# Altium integrated library sketch identifier.IntLib: 3 symbols
Pins are listed as number, name and electrical type; pins without a type are passive.

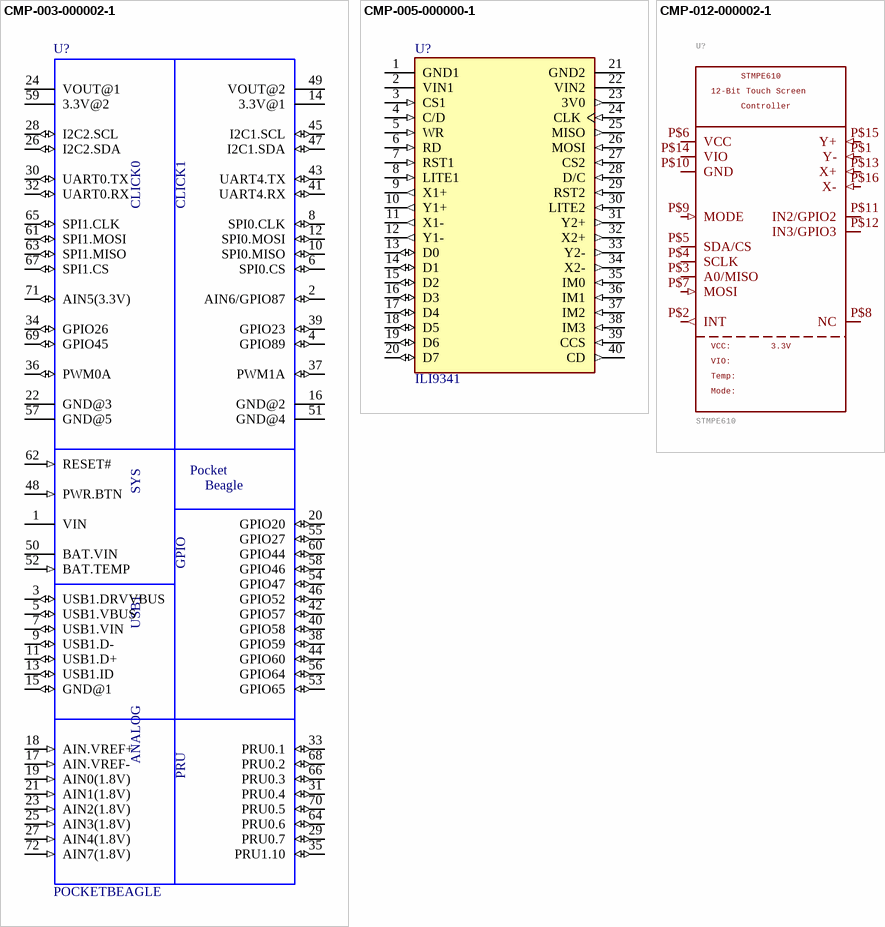
[diagram p0: symbols CMP-003-000002-1 to CMP-012-000002-1]

## CMP-003-000002-1
designator U?, comment POCKETBEAGLE
OSD3358 PocketBeagle - ARMÂ® CortexÂ®-A8 MPU Embedded Evaluation Board; MF: Beagleboard; Source: POCKETBEAGLE.SchLib; Component Type: Standard; Price: None; Check_prices: https://www.snapeda.com/parts/POCKETBEAGLE/BeagleBoard/view-part/4222356/?ref=eda; MP: POCKETBEAGLE; Pin Count: 72; Design Item ID: POCKETBEAGLE; SnapEDA_Link: https://www.snapeda.com/parts/POCKETBEAGLE/BeagleBoard/view-part/4222356/?ref=snap; Value: *; Availability: No availability data; Package: None; Component Type: Mechanical
footprint POCKETBEAGLE
pins: 1 VIN (power), 2 AIN6/GPIO87 (io), 3 USB1.DRVVBUS (io), 4 GPIO89 (io), 5 USB1.VBUS (io), 6 SPI0.CS (io), 7 USB1.VIN (io), 8 SPI0.CLK (io), 9 USB1.D- (io), 10 SPI0.MISO (io), 11 USB1.D+ (io), 12 SPI0.MOSI (io), 13 USB1.ID (io), 14 3.3V@1 (power), 15 GND@1 (io), 16 GND@2 (power), 17 AIN.VREF- (in), 18 AIN.VREF+ (in), 19 AIN0(1.8V) (in), 20 GPIO20 (io), 21 AIN1(1.8V) (in), 22 GND@3 (power), 23 AIN2(1.8V) (in), 24 VOUT@1 (power), 25 AIN3(1.8V) (in), 26 I2C2.SDA (io), 27 AIN4(1.8V) (in), 28 I2C2.SCL (io), 29 PRU0.7 (io), 30 UART0.TX (io), 31 PRU0.4 (io), 32 UART0.RX (io), 33 PRU0.1 (io), 34 GPIO26 (io), 35 PRU1.10 (io), 36 PWM0A (io), 37 PWM1A (io), 38 GPIO59 (io), 39 GPIO23 (io), 40 GPIO58 (io), 41 UART4.RX (io), 42 GPIO57 (io), 43 UART4.TX (io), 44 GPIO60 (io), 45 I2C1.SCL (io), 46 GPIO52 (io), 47 I2C1.SDA (io), 48 PWR.BTN (in), 49 VOUT@2 (power), 50 BAT.VIN (power), 51 GND@4 (power), 52 BAT.TEMP (in), 53 GPIO65 (io), 54 GPIO47 (io), 55 GPIO27 (io), 56 GPIO64 (io), 57 GND@5 (power), 58 GPIO46 (io), 59 3.3V@2 (power), 60 GPIO44 (io), 61 SPI1.MOSI (io), 62 RESET# (in), 63 SPI1.MISO (io), 64 PRU0.6 (io), 65 SPI1.CLK (io), 66 PRU0.3 (io), 67 SPI1.CS (io), 68 PRU0.2 (io), 69 GPIO45 (io), 70 PRU0.5 (io), 71 AIN5(3.3V) (io), 72 AIN7(1.8V) (in)
text: CLICK0; CLICK1; Pocket; SYS; Beagle; GPIO; USB1; ANALOG; PRU

## CMP-005-000000-1
designator U?, comment ILI9341
Resistive Graphic LCD Display Module Red, Green, Blue (RGB) TFT - Color Parallel, 8-Bit, SPI 2.4 (60.96mm) 240 x 320; MP: 2478; MF: Adafruit Industries; Availability: In Stock; SnapEDA_Link: https://www.snapeda.com/parts/2478/Adafruit+Industries+LLC/view-part/?ref=snap; Design Item ID: 2478; Package: NON STANDARD Adafruit; Component Type: Standard; Price: None; Pin Count: 40; Source: 2478.SchLib; Value: *; Check_prices: https://www.snapeda.com/parts/2478/Adafruit+Industries+LLC/view-part/?ref=eda; Component Type: Optoelectronics
footprint ADAFRUIT_2478
pins: 1 GND1 (power), 2 VIN1 (power), 3 CS1 (in), 4 C/D (in), 5 WR (in), 6 RD (in), 7 RST1 (in), 8 LITE1 (in), 9 X1+ (out), 10 Y1+ (out), 11 X1- (out), 12 Y1- (out), 13 D0 (io), 14 D1 (io), 15 D2 (io), 16 D3 (io), 17 D4 (io), 18 D5 (io), 19 D6 (io), 20 D7 (io), 21 GND2 (power), 22 VIN2 (power), 23 3V0 (out), 24 CLK (in), 25 MISO (out), 26 MOSI (in), 27 CS2 (in), 28 D/C (in), 29 RST2 (in), 30 LITE2 (in), 31 Y2+ (out), 32 X2+ (out), 33 Y2- (out), 34 X2- (out), 35 IM0 (in), 36 IM1 (in), 37 IM2 (in), 38 IM3 (in), 39 CCS (in), 40 CD (out)

## CMP-012-000002-1
designator U?, comment STMPE610  VCC: VCC:  1.8-3.6V: 3.3V  VIO: VIO:  Temp: Temp:  12-BitTouchScreen: 12-Bit Touch Screen  Mode: Mode:
STMPE610 - 12-Bit Touch Screen Controller; 0: I2C/1=SPI=0=I2C/1=SPI; GateName_1: G$1; STMPE610: STMPE610; Controller: Controller; LibraryName: microbuilder; DeviceSetName: STMPE610; Pin Count: 16; Component Type: Standard; Design Item ID: STMPE610; SymbolName_1: STMPE610; Source: Adafruit STMPE610.SCHLIB
footprint QFN16_3MM
pins: P$1 Y- (in), P$2 INT (out), P$3 A0/MISO (io), P$4 SCLK (io), P$5 SDA/CS (io), P$6 VCC (power), P$7 MOSI (in), P$8 NC, P$9 MODE (in), P$10 GND (power), P$11 IN2/GPIO2 (io), P$12 IN3/GPIO3 (io), P$13 X+ (in), P$14 VIO (power), P$15 Y+ (in), P$16 X- (in)